# EAGLE library part TPS61256C (library mille-feuille)
TPS61256xC 3.5-MHz High Efficiency Step-Up Converter In Chip Scale Pac
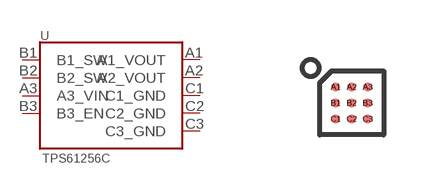
[diagram p44: symbol with the pads of DSBGA-9; footprint DSBGA-9]

Designator prefix U

## TPS61256C  [DSBGA-9]
A1  A1_VOUT
A2  A2_VOUT
A3  A3_VIN
B1  B1_SW
B2  B2_SW
B3  B3_EN
C1  C1_GND
C2  C2_GND
C3  C3_GND

## Footprint DSBGA-9 (pad centres in mm)
smd 0.23 x 0.23: A1 -0.4,0.4; A2 0,0.4; A3 0.4,0.4; B1 -0.4,0; B2 0,0; B3 0.4,0; C1 -0.4,-0.4; C2 0,-0.4; C3 0.4,-0.4